# EAGLE library part QUAD-CDEF (library unibus-cdef)
Quad-Height CDEF DEC Edge Connector
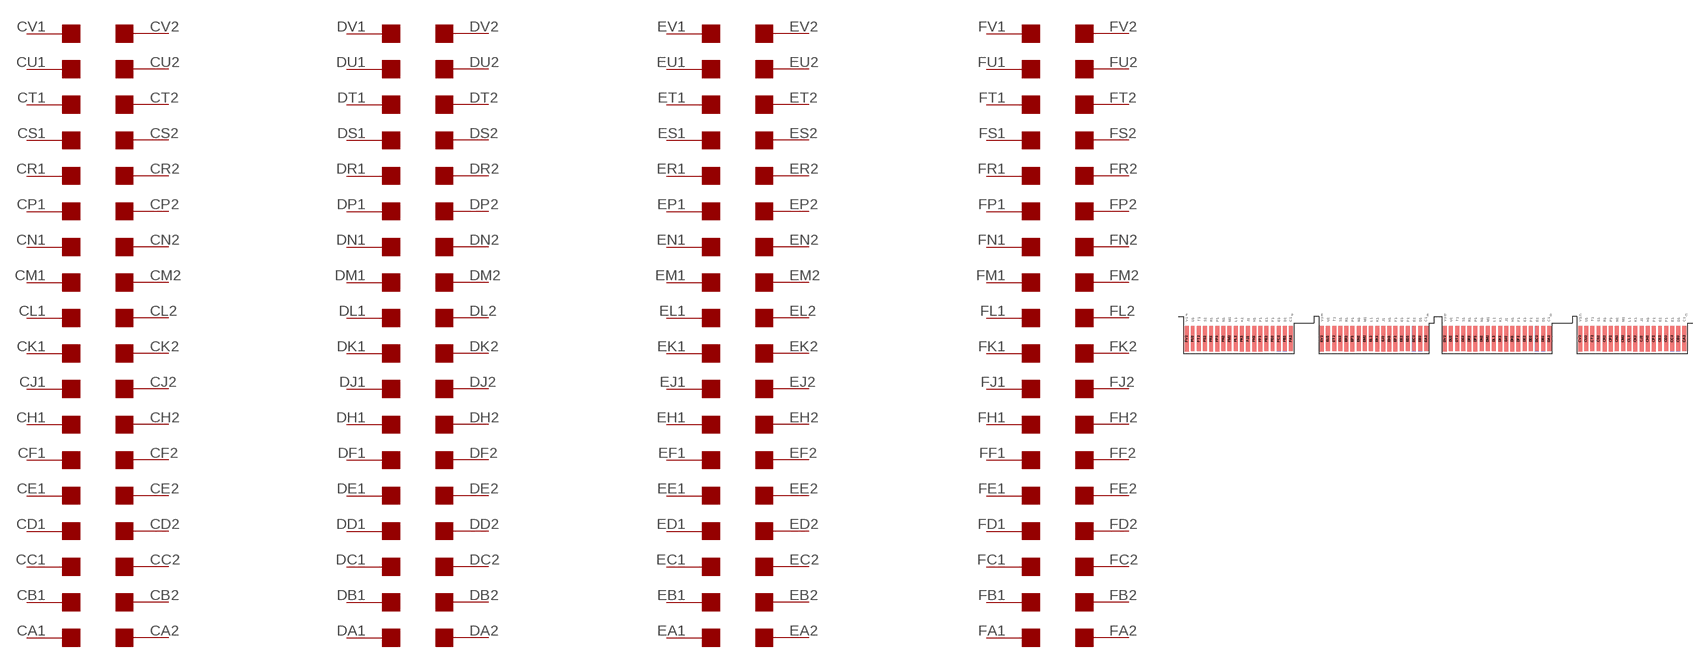
[diagram p0: symbol with the pads of EDGE-CON8; footprint EDGE-CON8]

Designator prefix -; gates CV1=EDGE-LEFT CU1=EDGE-LEFT CT1=EDGE-LEFT CS1=EDGE-LEFT CR1=EDGE-LEFT CP1=EDGE-LEFT CN1=EDGE-LEFT CM1=EDGE-LEFT CL1=EDGE-LEFT CK1=EDGE-LEFT CJ1=EDGE-LEFT CH1=EDGE-LEFT CF1=EDGE-LEFT CE1=EDGE-LEFT CD1=EDGE-LEFT CC1=EDGE-LEFT CB1=EDGE-LEFT CA1=EDGE-LEFT DV1=EDGE-LEFT DU1=EDGE-LEFT DT1=EDGE-LEFT DS1=EDGE-LEFT DR1=EDGE-LEFT DP1=EDGE-LEFT DN1=EDGE-LEFT DM1=EDGE-LEFT DL1=EDGE-LEFT DK1=EDGE-LEFT DJ1=EDGE-LEFT DH1=EDGE-LEFT DF1=EDGE-LEFT DE1=EDGE-LEFT DD1=EDGE-LEFT DC1=EDGE-LEFT DB1=EDGE-LEFT DA1=EDGE-LEFT CV2=EDGE-RIGHT CU2=EDGE-RIGHT CT2=EDGE-RIGHT CS2=EDGE-RIGHT CR2=EDGE-RIGHT CP2=EDGE-RIGHT CN2=EDGE-RIGHT CM2=EDGE-RIGHT CL2=EDGE-RIGHT CK2=EDGE-RIGHT CJ2=EDGE-RIGHT CH2=EDGE-RIGHT CF2=EDGE-RIGHT CE2=EDGE-RIGHT CD2=EDGE-RIGHT CC2=EDGE-RIGHT CB2=EDGE-RIGHT CA2=EDGE-RIGHT DV2=EDGE-RIGHT DU2=EDGE-RIGHT DT2=EDGE-RIGHT DS2=EDGE-RIGHT DR2=EDGE-RIGHT DP2=EDGE-RIGHT DN2=EDGE-RIGHT DM2=EDGE-RIGHT DL2=EDGE-RIGHT DK2=EDGE-RIGHT DJ2=EDGE-RIGHT DH2=EDGE-RIGHT DF2=EDGE-RIGHT DE2=EDGE-RIGHT DD2=EDGE-RIGHT DC2=EDGE-RIGHT DB2=EDGE-RIGHT DA2=EDGE-RIGHT EV1=EDGE-LEFT EU1=EDGE-LEFT ET1=EDGE-LEFT ES1=EDGE-LEFT ER1=EDGE-LEFT EP1=EDGE-LEFT EN1=EDGE-LEFT EM1=EDGE-LEFT EL1=EDGE-LEFT EK1=EDGE-LEFT EJ1=EDGE-LEFT EH1=EDGE-LEFT EF1=EDGE-LEFT EE1=EDGE-LEFT ED1=EDGE-LEFT EC1=EDGE-LEFT EB1=EDGE-LEFT EA1=EDGE-LEFT FV1=EDGE-LEFT FU1=EDGE-LEFT FT1=EDGE-LEFT FS1=EDGE-LEFT FR1=EDGE-LEFT FP1=EDGE-LEFT FN1=EDGE-LEFT FM1=EDGE-LEFT FL1=EDGE-LEFT FK1=EDGE-LEFT FJ1=EDGE-LEFT FH1=EDGE-LEFT FF1=EDGE-LEFT FE1=EDGE-LEFT FD1=EDGE-LEFT FC1=EDGE-LEFT FB1=EDGE-LEFT FA1=EDGE-LEFT EV2=EDGE-RIGHT EU2=EDGE-RIGHT ET2=EDGE-RIGHT ES2=EDGE-RIGHT ER2=EDGE-RIGHT EP2=EDGE-RIGHT EN2=EDGE-RIGHT EM2=EDGE-RIGHT EL2=EDGE-RIGHT EK2=EDGE-RIGHT EJ2=EDGE-RIGHT EH2=EDGE-RIGHT EF2=EDGE-RIGHT EE2=EDGE-RIGHT ED2=EDGE-RIGHT EC2=EDGE-RIGHT EB2=EDGE-RIGHT EA2=EDGE-RIGHT FV2=EDGE-RIGHT FU2=EDGE-RIGHT FT2=EDGE-RIGHT FS2=EDGE-RIGHT FR2=EDGE-RIGHT FP2=EDGE-RIGHT FN2=EDGE-RIGHT FM2=EDGE-RIGHT FL2=EDGE-RIGHT FK2=EDGE-RIGHT FJ2=EDGE-RIGHT FH2=EDGE-RIGHT FF2=EDGE-RIGHT FE2=EDGE-RIGHT FD2=EDGE-RIGHT FC2=EDGE-RIGHT FB2=EDGE-RIGHT FA2=EDGE-RIGHT

## QUAD-CDEF  [EDGE-CON8]
CA1  CA1:1  pas
CA2  CA2:1  pas
CB1  CB1:1  pas
CB2  CB2:1  pas
CC1  CC1:1  pas
CC2  CC2:1  pas
CD1  CD1:1  pas
CD2  CD2:1  pas
CE1  CE1:1  pas
CE2  CE2:1  pas
CF1  CF1:1  pas
CF2  CF2:1  pas
CH1  CH1:1  pas
CH2  CH2:1  pas
CJ1  CJ1:1  pas
CJ2  CJ2:1  pas
CK1  CK1:1  pas
CK2  CK2:1  pas
CL1  CL1:1  pas
CL2  CL2:1  pas
CM1  CM1:1  pas
CM2  CM2:1  pas
CN1  CN1:1  pas
CN2  CN2:1  pas
CP1  CP1:1  pas
CP2  CP2:1  pas
CR1  CR1:1  pas
CR2  CR2:1  pas
CS1  CS1:1  pas
CS2  CS2:1  pas
CT1  CT1:1  pas
CT2  CT2:1  pas
CU1  CU1:1  pas
CU2  CU2:1  pas
CV1  CV1:1  pas
CV2  CV2:1  pas
DA1  DA1:1  pas
DA2  DA2:1  pas
DB1  DB1:1  pas
DB2  DB2:1  pas
DC1  DC1:1  pas
DC2  DC2:1  pas
DD1  DD1:1  pas
DD2  DD2:1  pas
DE1  DE1:1  pas
DE2  DE2:1  pas
DF1  DF1:1  pas
DF2  DF2:1  pas
DH1  DH1:1  pas
DH2  DH2:1  pas
DJ1  DJ1:1  pas
DJ2  DJ2:1  pas
DK1  DK1:1  pas
DK2  DK2:1  pas
DL1  DL1:1  pas
DL2  DL2:1  pas
DM1  DM1:1  pas
DM2  DM2:1  pas
DN1  DN1:1  pas
DN2  DN2:1  pas
DP1  DP1:1  pas
DP2  DP2:1  pas
DR1  DR1:1  pas
DR2  DR2:1  pas
DS1  DS1:1  pas
DS2  DS2:1  pas
DT1  DT1:1  pas
DT2  DT2:1  pas
DU1  DU1:1  pas
DU2  DU2:1  pas
DV1  DV1:1  pas
DV2  DV2:1  pas
EA1  EA1:1  pas
EA2  EA2:1  pas
EB1  EB1:1  pas
EB2  EB2:1  pas
EC1  EC1:1  pas
EC2  EC2:1  pas
ED1  ED1:1  pas
ED2  ED2:1  pas
EE1  EE1:1  pas
EE2  EE2:1  pas
EF1  EF1:1  pas
EF2  EF2:1  pas
EH1  EH1:1  pas
EH2  EH2:1  pas
EJ1  EJ1:1  pas
EJ2  EJ2:1  pas
EK1  EK1:1  pas
EK2  EK2:1  pas
EL1  EL1:1  pas
EL2  EL2:1  pas
EM1  EM1:1  pas
EM2  EM2:1  pas
EN1  EN1:1  pas
EN2  EN2:1  pas
EP1  EP1:1  pas
EP2  EP2:1  pas
ER1  ER1:1  pas
ER2  ER2:1  pas
ES1  ES1:1  pas
ES2  ES2:1  pas
ET1  ET1:1  pas
ET2  ET2:1  pas
EU1  EU1:1  pas
EU2  EU2:1  pas
EV1  EV1:1  pas
EV2  EV2:1  pas
FA1  FA1:1  pas
FA2  FA2:1  pas
FB1  FB1:1  pas
FB2  FB2:1  pas
FC1  FC1:1  pas
FC2  FC2:1  pas
FD1  FD1:1  pas
FD2  FD2:1  pas
FE1  FE1:1  pas
FE2  FE2:1  pas
FF1  FF1:1  pas
FF2  FF2:1  pas
FH1  FH1:1  pas
FH2  FH2:1  pas
FJ1  FJ1:1  pas
FJ2  FJ2:1  pas
FK1  FK1:1  pas
FK2  FK2:1  pas
FL1  FL1:1  pas
FL2  FL2:1  pas
FM1  FM1:1  pas
FM2  FM2:1  pas
FN1  FN1:1  pas
FN2  FN2:1  pas
FP1  FP1:1  pas
FP2  FP2:1  pas
FR1  FR1:1  pas
FR2  FR2:1  pas
FS1  FS1:1  pas
FS2  FS2:1  pas
FT1  FT1:1  pas
FT2  FT2:1  pas
FU1  FU1:1  pas
FU2  FU2:1  pas
FV1  FV1:1  pas
FV2  FV2:1  pas

## Footprint EDGE-CON8 (pad centres in mm)
Double-Height DEC board
smd 2.032 x 13.017: CA1 261.223,7.709; CB1 258.118,7.684; CC1 254.956,7.684; CD1 251.765,7.684; CE1 248.59,7.693; CF1 245.389,7.668; CH1 242.24,7.668; CJ1 239.09,7.668; CK1 235.915,7.668; CL1 232.74,7.693; CM1 229.54,7.693; CN1 226.39,7.693; CP1 223.19,7.668; CR1 220.04,7.668; CS1 216.865,7.693; CT1 213.69,7.693; CU1 210.49,7.693; CV1 207.404,7.668; DA1 191.373,7.709; DB1 188.268,7.684; DC1 185.106,7.684; DD1 181.915,7.684; DE1 178.74,7.693; DF1 175.539,7.668; DH1 172.39,7.668; DJ1 169.24,7.668; DK1 166.065,7.668; DL1 162.89,7.693; DM1 159.69,7.693; DN1 156.54,7.693; DP1 153.34,7.668; DR1 150.19,7.668; DS1 147.015,7.693; DT1 143.84,7.693; DU1 140.64,7.693; DV1 137.554,7.668; EA1 127.873,7.709; EB1 124.768,7.684; EC1 121.606,7.684; ED1 118.415,7.684; EE1 115.24,7.693; EF1 112.039,7.668; EH1 108.89,7.668; EJ1 105.74,7.668; EK1 102.565,7.668; EL1 99.39,7.693; EM1 96.19,7.693; EN1 93.04,7.693; EP1 89.84,7.668; ER1 86.69,7.668; ES1 83.515,7.693; ET1 80.34,7.693; EU1 77.14,7.693; EV1 74.054,7.668; FA1 58.023,7.709; FB1 54.918,7.684; FC1 51.756,7.684; FD1 48.565,7.684; FE1 45.39,7.693; FF1 42.189,7.668; FH1 39.04,7.668; FJ1 35.89,7.668; FK1 32.715,7.668; FL1 29.54,7.693; FM1 26.34,7.693; FN1 23.19,7.693; FP1 19.99,7.668; FR1 16.84,7.668; FS1 13.665,7.693; FT1 10.49,7.693; FU1 7.29,7.693; FV1 4.204,7.668
smd 2.032 x 13.017 bottom: CA2 261.223,7.69; CB2 258.102,7.668; CC2 254.94,7.668; CD2 251.765,7.693; CE2 248.59,7.693; CF2 245.389,7.642; CH2 242.24,7.642; CJ2 239.09,7.668; CK2 235.915,7.668; CL2 232.74,7.693; CM2 229.54,7.693; CN2 226.39,7.693; CP2 223.19,7.668; CR2 220.04,7.668; CS2 216.865,7.693; CT2 213.69,7.693; CU2 210.464,7.693; CV2 207.404,7.668; DA2 191.373,7.69; DB2 188.252,7.668; DC2 185.09,7.668; DD2 181.915,7.693; DE2 178.74,7.693; DF2 175.539,7.642; DH2 172.39,7.642; DJ2 169.24,7.668; DK2 166.065,7.668; DL2 162.89,7.693; DM2 159.69,7.693; DN2 156.54,7.693; DP2 153.34,7.668; DR2 150.19,7.668; DS2 147.015,7.693; DT2 143.84,7.693; DU2 140.614,7.693; DV2 137.554,7.668; EA2 127.873,7.69; EB2 124.752,7.668; EC2 121.59,7.668; ED2 118.415,7.693; EE2 115.24,7.693; EF2 112.039,7.642; EH2 108.89,7.642; EJ2 105.74,7.668; EK2 102.565,7.668; EL2 99.39,7.693; EM2 96.19,7.693; EN2 93.04,7.693; EP2 89.84,7.668; ER2 86.69,7.668; ES2 83.515,7.693; ET2 80.34,7.693; EU2 77.114,7.693; EV2 74.054,7.668; FA2 58.023,7.69; FB2 54.902,7.668; FC2 51.74,7.668; FD2 48.565,7.693; FE2 45.39,7.693; FF2 42.189,7.642; FH2 39.04,7.642; FJ2 35.89,7.668; FK2 32.715,7.668; FL2 29.54,7.693; FM2 26.34,7.693; FN2 23.19,7.693; FP2 19.99,7.668; FR2 16.84,7.668; FS2 13.665,7.693; FT2 10.49,7.693; FU2 7.264,7.693; FV2 4.204,7.668